# Altium schematic symbol library IRF8313TRPBF.Schlib: 1 symbol
Pins are listed as number, name and electrical type; pins without a type are passive.

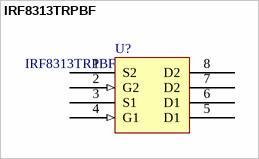
[diagram p0: symbol IRF8313TRPBF]

## IRF8313TRPBF
designator U?
MOSFET 2N-CH 30V 9.7A 8-SOIC
pins: 1 S2, 2 G2 (in), 3 S1, 4 G1 (in), 5 D1, 6 D1, 7 D2, 8 D2